# Altium footprint library KF142R-5.08-2P.PcbLib: 1 footprints
Each footprint in its own frame and in the unit in brackets; x right, y up, seen from the top. Pads: shape width x height; smd on the part's side, far side on the other; paste and mask are expansions set on the pad; w line width, h text height; cw(c..) or ccw(c..) is an arc to the next point about the centre after c.
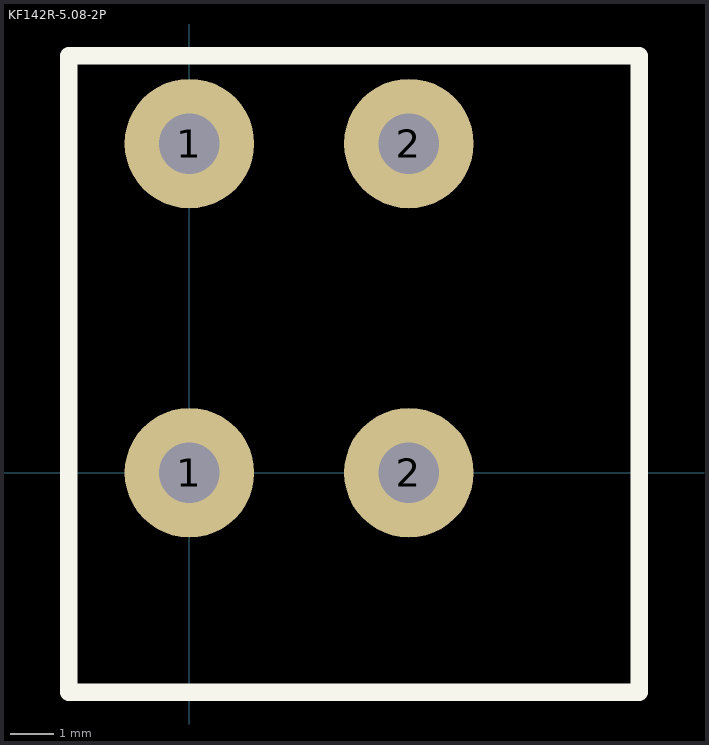
[diagram p0: the footprint, top view; thin cyan lines are the x and y axes]

## KF142R-5.08-2P [mm]
pads (4):
  round 3 hole 1.4: 1(0,0) 1(0,7.62) 2(5.08,0) 2(5.08,7.62)
Top Overlay:
  lines w0.4: -2.794,-5.08 10.414,-5.08 10.414,9.652 -2.794,9.652 -2.794,-5.08
3D body "KF142R-5.08-2P.SLDPRT": height 13.4, standoff -3.5, extent -2.44,-4.73 10.16,9.37